# Altium integrated library iit_motorsports_common.IntLib: 1 symbol
Pins are listed as number, name and electrical type; pins without a type are passive.

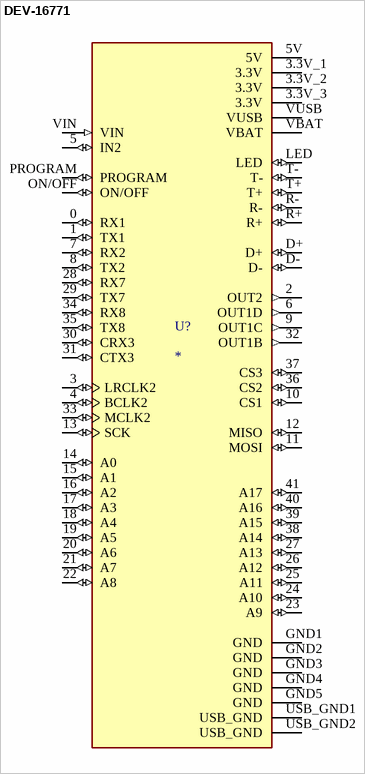
[diagram p0: symbol DEV-16771]

## DEV-16771
designator U?
RT1062 Teensy 4.1 i.MX ARM Cortex-M7 MPU Embedded Evaluation Board; MF: {'manufacturer': u'SparkFun Electronics'}; MP: DEV-16771; Value: *; Package: None; Availability: Unavailable; Price: None
footprint MODULE_DEV-16771
pins: 0 RX1 (io), 1 TX1 (io), 2 OUT2 (out), 3 LRCLK2 (io), 3.3V_1 3.3V (power), 3.3V_2 3.3V (power), 3.3V_3 3.3V (power), 4 BCLK2 (io), 5 IN2 (io), 5V (power), 6 OUT1D (out), 7 RX2 (io), 8 TX2 (io), 9 OUT1C (out), 10 CS1 (io), 11 MOSI (io), 12 MISO (io), 13 SCK (io), 14 A0 (io), 15 A1 (io), 16 A2 (io), 17 A3 (io), 18 A4 (io), 19 A5 (io), 20 A6 (io), 21 A7 (io), 22 A8 (io), 23 A9 (io), 24 A10 (io), 25 A11 (io), 26 A12 (io), 27 A13 (io), 28 RX7 (io), 29 TX7 (io), 30 CRX3 (io), 31 CTX3 (io), 32 OUT1B (out), 33 MCLK2 (io), 34 RX8 (io), 35 TX8 (io), 36 CS2 (io), 37 CS3 (io), 38 A14 (io), 39 A15 (io), 40 A16 (io), 41 A17 (io), D+ (io), D- (io), GND1 GND (power), GND2 GND (power), GND3 GND (power), GND4 GND (power), GND5 GND (power), LED (io), ON/OFF (io), PROGRAM (io), R+ (io), R- (io), T+ (io), T- (io), USB_GND1 USB_GND (power), USB_GND2 USB_GND (power), VBAT, VIN (in), VUSB